# EAGLE library part BLE_HM10 (library My_BLE)
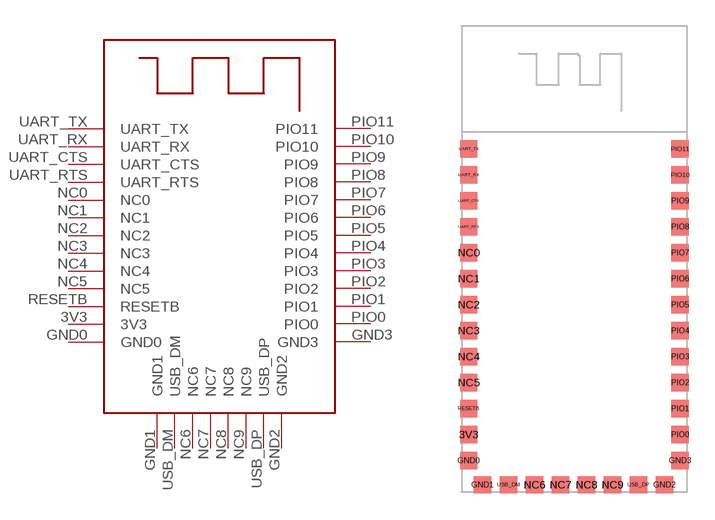
[diagram p0: symbol with the pads of BLE_HM10; footprint BLE_HM10]

Designator prefix -

## BLE_HM10  [BLE_HM10]
3V3  3V3
GND0  GND0
GND1  GND1
GND2  GND2
GND3  GND3
NC0  NC0
NC1  NC1
NC2  NC2
NC3  NC3
NC4  NC4
NC5  NC5
NC6  NC6
NC7  NC7
NC8  NC8
NC9  NC9
PIO0  PIO0
PIO1  PIO1
PIO2  PIO2
PIO3  PIO3
PIO4  PIO4
PIO5  PIO5
PIO6  PIO6
PIO7  PIO7
PIO8  PIO8
PIO9  PIO9
PIO10  PIO10
PIO11  PIO11
RESETB  RESETB
UART_CTS  UART_CTS
UART_RTS  UART_RTS
UART_RX  UART_RX
UART_TX  UART_TX
USB_DM  USB_DM
USB_DP  USB_DP

## Footprint BLE_HM10 (pad centres in mm)
smd 1 x 1: 3V3 0.4,-17; GND0 0.4,-18.5; GND1 1.2,-19.9; GND2 11.7,-19.9; GND3 12.6,-18.5; NC0 0.4,-6.5; NC1 0.4,-8; NC2 0.4,-9.5; NC3 0.4,-11; NC4 0.4,-12.5; NC5 0.4,-14; NC6 4.2,-19.9; NC7 5.7,-19.9; NC8 7.2,-19.9; NC9 8.7,-19.9; PIO0 12.6,-17; PIO1 12.6,-15.5; PIO2 12.6,-14; PIO3 12.6,-12.5; PIO4 12.6,-11; PIO5 12.6,-9.5; PIO6 12.6,-8; PIO7 12.6,-6.5; PIO8 12.6,-5; PIO9 12.6,-3.5; PIO10 12.6,-2; PIO11 12.6,-0.5; RESETB 0.4,-15.5; UART_CTS 0.4,-3.5; UART_RTS 0.4,-5; UART_RX 0.4,-2; UART_TX 0.4,-0.5; USB_DM 2.7,-19.9; USB_DP 10.2,-19.9